# Altium footprint library DX.PcbLib: 7 footprints
Each footprint in its own frame and in the unit in brackets; x right, y up, seen from the top. Pads: shape width x height; smd on the part's side, far side on the other; paste and mask are expansions set on the pad; w line width, h text height; cw(c..) or ccw(c..) is an arc to the next point about the centre after c.
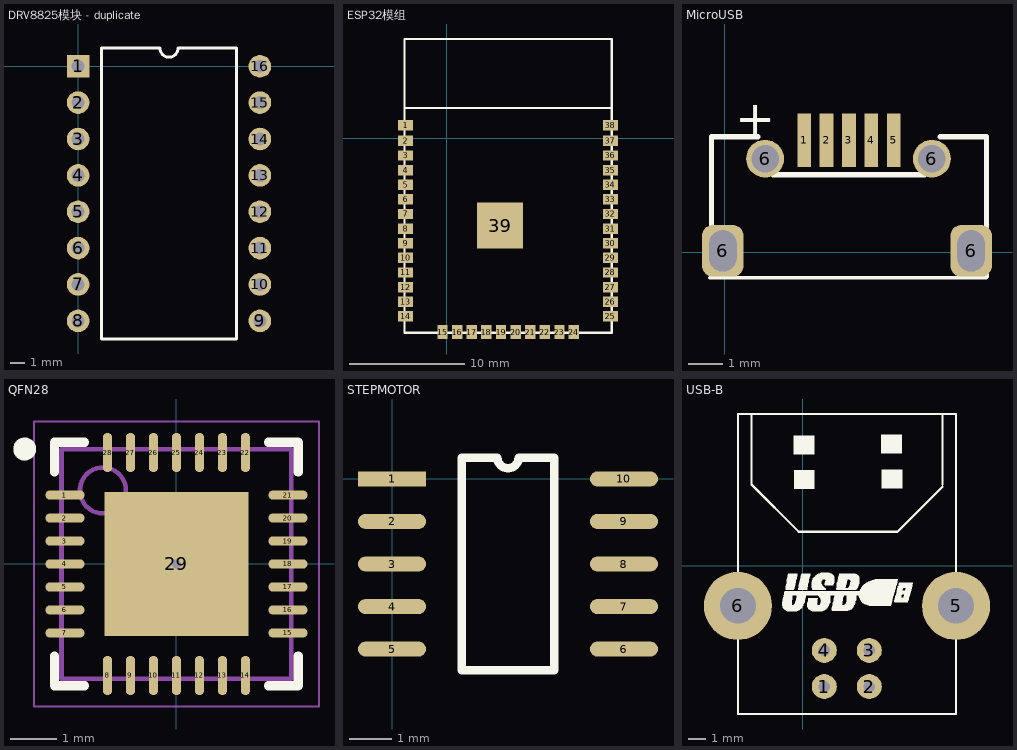
[diagram p0: the footprints below, top view; thin cyan lines are the x and y axes]

## DRV8825模块 [mm]

## DRV8825模块 - duplicate [mm]
pads (16):
  rect 1.58x1.58 hole 0.9: 1(0,0)
  round 1.58 hole 0.9: 2(0,-2.54) 3(0,-5.08) 4(0,-7.62) 5(0,-10.16) 6(0,-12.7) 7(0,-15.24) 8(0,-17.78) 9(12.7,-17.78) 10(12.7,-15.24) 11(12.7,-12.7) 12(12.7,-10.16) 13(12.7,-7.62) 14(12.7,-5.08) 15(12.7,-2.54) 16(12.7,0)
Top Overlay:
  lines w0.2: 1.625,-19.05 1.625,1.27 5.715,1.27 ccw(c6.35,1.27) 6.985,1.27 11.075,1.27 11.075,-19.05 1.625,-19.05

## ESP32模组 [mm]
pads (39):
  rect 1.3x0.9 smd: 1(-3.581,1.109) 2(-3.581,-0.236) 3(-3.581,-1.506) 4(-3.581,-2.776) 5(-3.581,-4.046) 6(-3.581,-5.316) 7(-3.581,-6.586) 8(-3.581,-7.856) 9(-3.581,-9.126) 10(-3.581,-10.396) 11(-3.581,-11.666) 12(-3.581,-12.936) 13(-3.581,-14.206) 14(-3.581,-15.476) 25(14.19,-15.476) 26(14.19,-14.206) 27(14.19,-12.936) 28(14.19,-11.666) 29(14.19,-10.396) 30(14.19,-9.126) 31(14.19,-7.856) 32(14.19,-6.586) 33(14.19,-5.316) 34(14.19,-4.046) 35(14.19,-2.776) 36(14.19,-1.506) 37(14.19,-0.236) 38(14.19,1.109)
  rect 0.9x1.2 smd: 15(-0.383,-16.846) 16(0.887,-16.846) 17(2.157,-16.846) 18(3.427,-16.846) 19(4.697,-16.846) 20(5.967,-16.846) 21(7.237,-16.846) 22(8.507,-16.846) 23(9.777,-16.846) 24(11.017,-16.846)
  rect 4x4 smd: 39(4.617,-7.591)
Top Overlay:
  lines w0.2: -3.683,2.609 14.317,2.609
  lines w0.203: -3.683,-16.891 14.317,-16.891 14.317,8.609 -3.683,8.609 -3.683,-16.891

## MicroUSB [mm]
pads (9):
  rect 0.4x1.55 smd: 1(2.312,3.259) 2(2.963,3.259) 3(3.612,3.259) 4(4.262,3.259) 5(4.912,3.259)
  rrect50% 1.2x1.5 hole 0.8 slot 1.2 at 90 deg: 6(-0.056,0.043) 6(7.168,0.043)
  round 1.1 hole 0.8: 6(1.174,2.723) 6(6.025,2.723)
Top Overlay:
  lines w0.1: -0.437,-0.741 7.612,-0.741
  lines w0.152: -0.387,-0.719 -0.387,3.359 0.963,3.359 ; 1.412,2.259 5.812,2.259 ; 6.262,3.359 7.612,3.359 7.612,-0.693
  text "+" at 0.312,3.409 h1.02

## QFN28 [mm] "QFN, 28-Leads, Body 5.00x5.00mm, Pitch 0.50mm, Thermal Pad 3.13x3.13mm, IPC Medium Density"
height 1
pads (29):
  oval 0.85x0.2 smd: 1(-2.425,1.5) 2(-2.425,1) 3(-2.425,0.5) 4(-2.425,0) 5(-2.425,-0.5) 6(-2.425,-1) 7(-2.425,-1.5) 15(2.425,-1.5) 16(2.425,-1) 17(2.425,-0.5) 18(2.425,0) 19(2.425,0.5) 20(2.425,1) 21(2.425,1.5)
  oval 0.2x0.85 smd: 8(-1.5,-2.425) 9(-1,-2.425) 10(-0.5,-2.425) 11(0,-2.425) 12(0.5,-2.425) 13(1,-2.425) 14(1.5,-2.425) 22(1.5,2.425) 23(1,2.425) 24(0.5,2.425) 25(0,2.425) 26(-0.5,2.425) 27(-1,2.425) 28(-1.5,2.425)
  rect 3.13x3.13 smd: 29(0,0)
via 0,0 diameter 0.5 hole 0.2
Top Overlay:
  circle w0.25: c-3.3,2.5 r0.125
  lines w0.2: -2.65,-2 -2.65,-2.65 -2,-2.65 ; -2.65,2 -2.65,2.65 -2,2.65 ; 2,-2.65 2.65,-2.65 2.65,-2 ; 2,2.65 2.65,2.65 2.65,2
Mechanical 13:
  circle w0.1: c-1.6,1.6 r0.5
  lines w0.1: -2.5,-2.5 2.5,-2.5 2.5,2.5 -2.5,2.5 -2.5,-2.5
Mechanical 15:
  lines w0.05: -3.1,-3.1 3.1,-3.1 3.1,3.1 -3.1,3.1 -3.1,-3.1
  lines w0.1: -0.5,0 0.5,0 ; 0,-0.5 0,0.5
3D body: height 1, standoff 0.02, extent -2.5,-2.5 2.5,2.5

## STEPMOTOR [mm]
pads (10):
  rect 1.6x0.35 smd: 1(0,0)
  oval 1.6x0.35 smd: 2(0,-1) 3(0,-2) 4(0,-3) 5(0,-4) 6(5.45,-4) 7(5.45,-3) 8(5.45,-2) 9(5.45,-1) 10(5.45,0)
Top Overlay:
  lines w0.2: 1.635,-4.5 1.635,0.5 2.475,0.5 ccw(c2.725,0.5) 2.975,0.5 3.815,0.5 3.815,-4.5 1.635,-4.5

## USB-B [mil]
pads (6):
  round 55 hole 25: 1(46.81,-266.42) 2(145.81,-266.42) 3(145.81,-186.68) 4(46.81,-186.68)
  round 150 hole 78.74: 5(336.81,-88.68) 6(-143.19,-88.68)
Top Overlay:
  drawing of 1016 lines, arcs and shapes, not listed